# EAGLE library part 615006149421R (library Wurth_Elektronik_Electromechanic_Input-Output_Connectors_rev16a)
MJ_Modular Jack_Tab UP_6P6C_Right Assembly 6P6C Tab UP_Right Assembly housing <http://katalog.we-online.de/media/images/eican/Con_WR-MJ_Horizontal_Plastic_6150xx149421_pf2.jpg> Details see: http://katalog.we-online.de/en/em/615_0xx_149_421/615_006_149_421_R? Created 2014-10-16, Dan Xu 2014 (C) Würth Elektronik
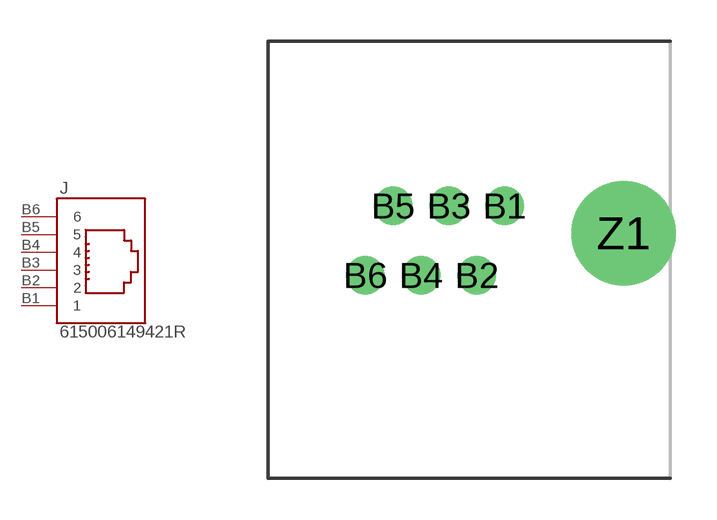
[diagram p165: symbol with the pads of 615006149421R; footprint 615006149421R]

Designator prefix J

## 615006149421R  [615006149421R]
B1  1  pas
B2  2  pas
B3  3  pas
B4  4  pas
B5  5  pas
B6  6  pas

## Footprint 615006149421R (pad centres in mm)
WR-MJ_Modular Jack_Tab UP_6P6C_Right Assembly 6P6C Tab UP_Right Assembly housing
drill 0.9: B1 0,0; B2 -1.02,-2.54; B3 -2.04,0; B4 -3.06,-2.54; B5 -4.08,0; B6 -5.1,-2.54
drill 2.8: Z1 4.35,-1